# Altium footprint library STEF05PUR.PcbLib: 3 footprints
Each footprint in its own frame and in the unit in brackets; x right, y up, seen from the top. Pads: shape width x height; smd on the part's side, far side on the other; paste and mask are expansions set on the pad; w line width, h text height; cw(c..) or ccw(c..) is an arc to the next point about the centre after c.
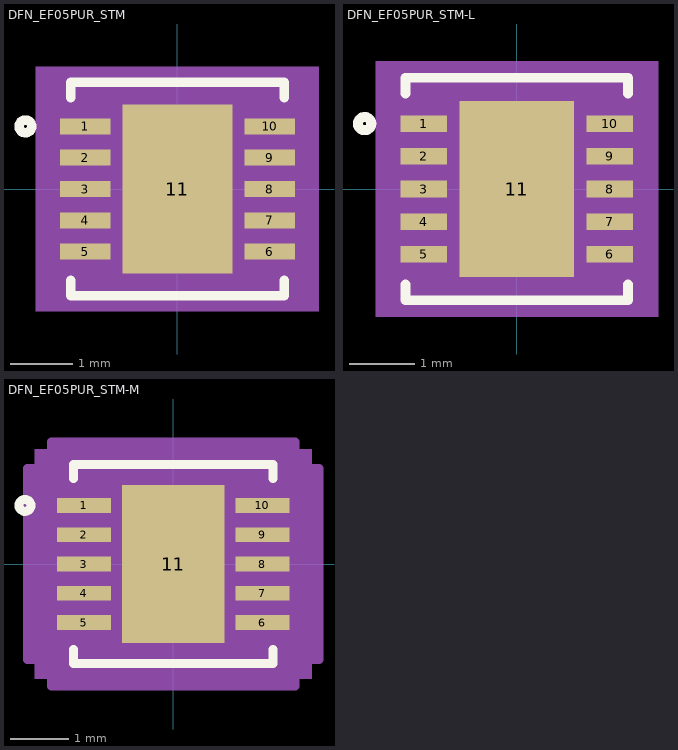
[diagram p0: the footprints below, top view; thin cyan lines are the x and y axes]

## DFN_EF05PUR_STM [mil]
pads (11):
  rect 32x10 smd paste+0 mask+0: 1(-58,39.38) 2(-58,19.69) 3(-58,0) 4(-58,-19.69) 5(-58,-39.38) 6(58,-39.38) 7(58,-19.69) 8(58,0) 9(58,19.69) 10(58,39.38)
  rect 69x106.3 smd paste+0 mask+0: 11(0,0)
Top Overlay:
  circle w6: c-95.69,39.38 r4
  lines w6: -67,-57.48 -67,-67 67,-67 67,-57.48 ; -67,57.48 -67,67 67,67 67,57.48
Top Paste:
  region: 30.56,49.21 -30.56,49.21 -30.56,3.94 30.56,3.94
  region: 30.56,-3.94 -30.56,-3.94 -30.56,-49.21 30.56,-49.21
Mechanical 5:
  region: 89,-77 -89,-77 -89,77 89,77
Mechanical 13:
  circle w0: c-42,39.38 r3
  lines w0: -12,62 ccw(c0,62) 12,62
  lines w1: -62,-62 62,-62 62,62 -62,62 -62,-62
Mechanical 15:
  region: -72,-54.38 -84,-54.38 -84,54.38 -72,54.38 -72,72 72,72 72,54.38 84,54.38 84,-54.38 72,-54.38 72,-72 -72,-72
  lines w6: -84,-54.38 -84,54.38 -72,54.38 -72,72 72,72 72,54.38 84,54.38 84,-54.38 72,-54.38 72,-72 -72,-72 -72,-54.38 -84,-54.38
3D body "DFN_EF05PUR_STM.step": height 32.09, standoff 0, extent -62.01,-62.01 62.01,62.01

## DFN_EF05PUR_STM-L [mil]
pads (11):
  rect 28x10 smd paste+0 mask+0: 1(-56,39.38) 2(-56,19.69) 3(-56,0) 4(-56,-19.69) 5(-56,-39.38) 6(56,-39.38) 7(56,-19.69) 8(56,0) 9(56,19.69) 10(56,39.38)
  rect 69x106.3 smd paste+0 mask+0: 11(0,0)
Top Overlay:
  circle w6: c-91.69,39.38 r4
  lines w6: -67,-57.48 -67,-67 67,-67 67,-57.48 ; -67,57.48 -67,67 67,67 67,57.48
Top Paste:
  region: 30.56,49.21 -30.56,49.21 -30.56,3.94 30.56,3.94
  region: 30.56,-3.94 -30.56,-3.94 -30.56,-49.21 30.56,-49.21
Mechanical 5:
  region: 85,-77 -85,-77 -85,77 85,77
Mechanical 13:
  circle w0: c-42,39.38 r3
  lines w0: -12,62 ccw(c0,62) 12,62
  lines w1: -62,-62 62,-62 62,62 -62,62 -62,-62
Mechanical 15:
  region: -66,-48.38 -74,-48.38 -74,48.38 -66,48.38 -66,66 66,66 66,48.38 74,48.38 74,-48.38 66,-48.38 66,-66 -66,-66
  lines w6: -74,-48.38 -74,48.38 -66,48.38 -66,66 66,66 66,48.38 74,48.38 74,-48.38 66,-48.38 66,-66 -66,-66 -66,-48.38 -74,-48.38
3D body "DFN_EF05PUR_STM.step": height 32.09, standoff 0, extent -62.01,-62.01 62.01,62.01

## DFN_EF05PUR_STM-M [mil]
pads (11):
  rect 36x10 smd paste+0 mask+0: 1(-60,39.38) 2(-60,19.69) 3(-60,0) 4(-60,-19.69) 5(-60,-39.38) 6(60,-39.38) 7(60,-19.69) 8(60,0) 9(60,19.69) 10(60,39.38)
  rect 69x106.3 smd paste+0 mask+0: 11(0,0)
Top Overlay:
  circle w6: c-99.69,39.38 r4
  lines w6: -67,-57.48 -67,-67 67,-67 67,-57.48 ; -67,57.48 -67,67 67,67 67,57.48
Top Paste:
  region: 30.56,49.21 -30.56,49.21 -30.56,3.94 30.56,3.94
  region: 30.56,-3.94 -30.56,-3.94 -30.56,-49.21 30.56,-49.21
Mechanical 5:
  region: 93,-77 -93,-77 -93,77 93,77
Mechanical 13:
  circle w0: c-42,39.38 r3
  lines w0: -12,62 ccw(c0,62) 12,62
  lines w1: -62,-62 62,-62 62,62 -62,62 -62,-62
Mechanical 15:
  region: -82,-64.38 -98,-64.38 -98,64.38 -82,64.38 -82,82 82,82 82,64.38 98,64.38 98,-64.38 82,-64.38 82,-82 -82,-82
  lines w6: -98,-64.38 -98,64.38 -82,64.38 -82,82 82,82 82,64.38 98,64.38 98,-64.38 82,-64.38 82,-82 -82,-82 -82,-64.38 -98,-64.38
3D body "DFN_EF05PUR_STM.step": height 32.09, standoff 0, extent -62.01,-62.01 62.01,62.01